# Altium integrated library EEUEB1E470S.IntLib: 1 symbol
Pins are listed as number, name and electrical type; pins without a type are passive.

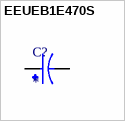
[diagram p0: symbol EEUEB1E470S]

## EEUEB1E470S
designator C?
CAP ALUM 47UF 20% 25V RADIAL; MF: Panasonic; MP: EEUEB1E470S; Check_prices: https://www.snapeda.com/parts/EEUEB1E470S/Panasonic/view-part/?ref=eda; Purchase-URL: https://pricing.snapeda.com/search/part/EEUEB1E470S/?ref=eda; Price: None; Availability: In Stock; SnapEDA_Link: https://www.snapeda.com/parts/EEUEB1E470S/Panasonic/view-part/?ref=snap; Package: RADIAL-2 Panasonic; Value: *
footprint CAPPRD200W50D500H1100
pins: N, P